# EAGLE library part LTC26* (library jt-linear-technologies)
Linear Technologies SPI DAC
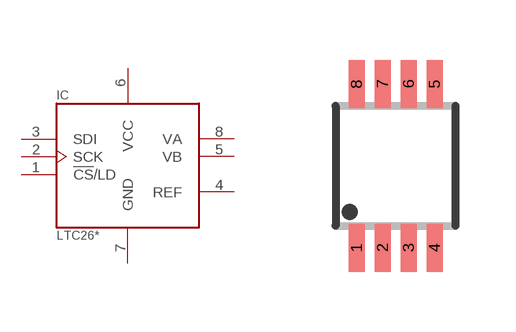
[diagram p0: symbol with the pads of MSOP8; footprint MSOP8]

Designator prefix IC

## LTC2602 (BITS: 12), LTC2612 (BITS: 14), LTC2622 (BITS: 16)  [MSOP8]
1  !CS!/LD  in
2  SCK  in
3  SDI  in
4  REF  pwr
5  VB  out
6  VCC  pwr
7  GND  pwr
8  VA  out

## Footprint MSOP8 (pad centres in mm)
MSOP8
smd 0.4 x 1.2: 1 -0.975,-2.05; 2 -0.325,-2.05; 3 0.325,-2.05; 4 0.975,-2.05; 5 0.975,2.05; 6 0.325,2.05; 7 -0.325,2.05; 8 -0.975,2.05